# Altium footprint library Motorola.PcbLib: 4 footprints
Each footprint in its own frame and in the unit in brackets; x right, y up, seen from the top. Pads: shape width x height; smd on the part's side, far side on the other; paste and mask are expansions set on the pad; w line width, h text height; cw(c..) or ccw(c..) is an arc to the next point about the centre after c.

## Moto Z Back cover [mm]
3D body "mdk_back_cover.stp": height -6.76, standoff -14.79, extent -36.082,-73.377 36.083,77.047

## Perforated PCB assembly [mm]
3D body "perforated-pcb-assembly.stp": height -5.75, standoff -10.54, extent -29.864,-55.815 29.865,31.815

## Personality card assembly [mm]
3D body "personality-card-assembly.stp": height -5.75, standoff -17.59, extent -29.865,-55.814 29.865,31.815

## Personality card housing [mm]
3D body "personality-card-housing.stp": height -9.62, standoff -17.59, extent -29.865,-55.814 29.865,31.815